# EAGLE library part TPS61089 (library daqcs)
12.6-V, 7-A Fully-Integrated Synchronous Boost Converters in 2.0-mm x 2.5-mm VQFN Package
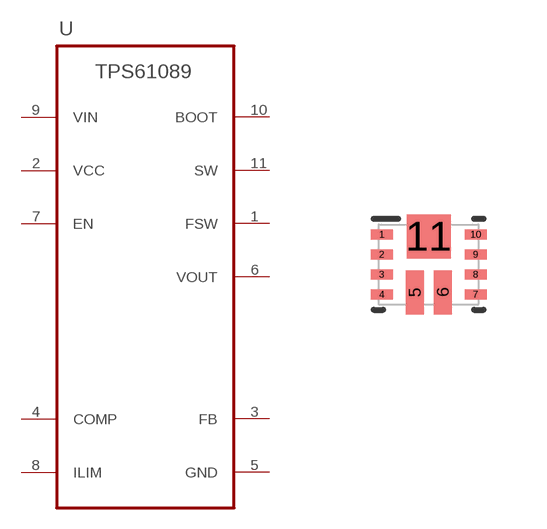
[diagram p0: symbol with the pads of RNR0011A; footprint RNR0011A]

Designator prefix U

## TPS61089RNRR (DATASHEET: HW/docs/projects/raspi_zero_power_sensor_hat/datasheets/boost/tps61089.pdf; MANUFACTURER: Texas Instruments; MANUFACTURER_PN: TPS61089RNRR; VALUE: TPS61089RNRR; VENDOR: Arrow; VENDOR_PN: TPS61089RNRR)  [RNR0011A]
1  FSW  in
2  VCC  out
3  FB  in
4  COMP  out
5  GND  pwr
6  VOUT  pwr
7  EN  in
8  ILIM  out
9  VIN  in
10  BOOT  out
11  SW  pwr

## Footprint RNR0011A (pad centres in mm)
RNR0011A Author: Chris Schwab Notes: Modified from Ultra Librarian export of TI's .bxl file
smd 0.55 x 0.25: 1 -1.175,0.75; 2 -1.175,0.25; 3 -1.175,-0.25; 4 -1.175,-0.75; 7 1.175,-0.75; 8 1.175,-0.25; 9 1.175,0.25; 10 1.175,0.75
smd 0.45 x 1.1: 5 -0.35,-0.7; 6 0.35,-0.7
smd 1.1 x 1.1: 11 0,0.7